# EAGLE library part SIMHOLDER (library X893)
SIM Holder
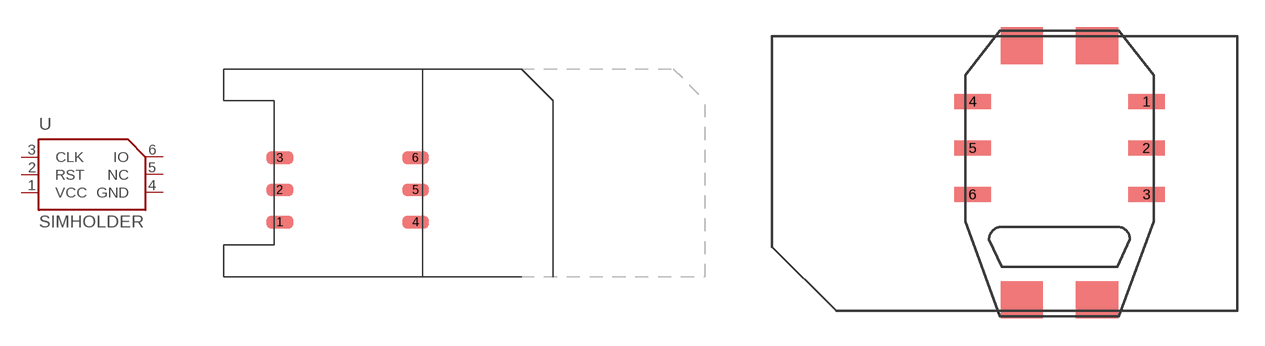
[diagram p9: symbol with the pads of 6393699-1; footprints 6393699-1, 1-1705615]

Designator prefix U

## SIMHOLDER-6393699  [6393699-1]
1  VCC  pas
2  RST  in
3  CLK  in
4  GND  sup
5  NC  nc
6  IO

## SIMHOLDER-1705615  [1-1705615]
Pads as for 6393699-1

## SIMHOLDER-CHIP  [VQFN8]
P$1  CLK  in
P$2  IO
P$3  RST  in
P$4  GND  sup
P$5  VCC  pas
P$6  NC  nc

## SIMHOLDER-MFF2  [MFF2]
1  GND  sup
2  NC  nc
3  IO
6  CLK  in
7  RST  in
8  VCC  pas

## SIMHOLDER-SIM8050  [SIM8050]
C1  VCC  pas
C2  RST  in
C3  CLK  in
C5  GND  sup
C6  NC  nc
C7  IO

## SIMHOLDER-503960-0695  [SIM-503960-0695]
Pads as for SIM8050

## Footprint 6393699-1 (pad centres in mm)
smd 2.1 x 1: 1 0.75,-2.6; 2 0.75,-0.06; 3 0.75,2.48; 4 11.45,-2.6; 5 11.45,-0.06; 6 11.45,2.48

## Footprint 1-1705615 (pad centres in mm)
Tyco SIM holder http://www.tycoelectronics.com/catalog/bin/TE.Connect?C=21422&M=FEAT&P=142289,14190,142476,142480&U=&BML=10576,17560,17578,22785&LG=1
smd 2 x 0.8: 1 4.75,2.54; 2 4.75,0; 3 4.75,-2.54; 4 -4.75,2.54; 5 -4.75,0; 6 -4.75,-2.54

## Footprint VQFN8 (pad centres in mm)
smd 0.4 x 0.8: P$1 -1.905,-2.85; P$2 -0.635,-2.85; P$3 0.635,-2.85; P$4 1.905,-2.85; P$5 1.905,2.85; P$6 0.635,2.85; P$7 -0.635,2.85; P$8 -1.905,2.85

## Footprint MFF2 (pad centres in mm)
smd 1 x 0.6: 1 -2.9,1.905; 2 -2.9,0.635; 3 -2.9,-0.635; 6 2.9,-0.635; 7 2.9,0.635; 8 2.9,1.905

## Footprint SIM8050 (pad centres in mm)
Datasheet <http://www.gct.co/sim-connectors/pdf/SIM8050.pdf>
smd 1 x 1: C1 2.54,-5.85; C2 0,-5.85; C3 -2.54,-5.85; C5 2.54,5.85; C6 0,5.85; C7 -2.54,5.85
smd 1 x 2.4: GND@1 -5.27,0; GND@2 5.27,0
hole 0.7 at 4.6,4.15
hole 0.9 at -4.4,-4.15

## Footprint SIM-503960-0695 (pad centres in mm)
Datasheet <http://www.molex.com/pdm_docs/sd/5039600695_sd.pdf>
smd 0.55 x 0.8: C1 5.765,0.15; C2 7.765,0.15; C3 11.955,0.15; C5 4.765,0.15; C6 6.765,0.15; C7 10.955,0.15; CD 9.55,0.15
smd 0.8 x 1.5: CD-GND 2.4,1.07
smd 1 x 2.4: GND@1 0.5,1.2; GND@2 0.5,9.55; GND@3 0.5,14.85; GND@4 15.6,14.85; GND@5 15.6,9.55; GND@6 15.6,1.2